# Altium schematic symbol library Darlington.SchLib: 3 symbols
Pins are listed as number, name and electrical type; pins without a type are passive.

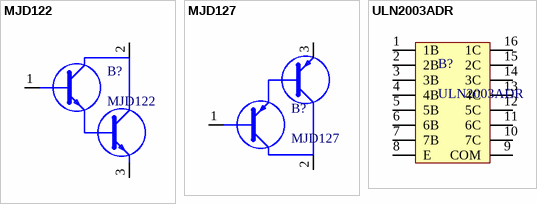
[diagram p0: symbols MJD122 to ULN2003ADR]

## MJD122
designator B?
CJ(江苏长电/长晶) NPN,Vceo=100V,Ic=8A; 封装: TO-252-2; 类别: 达林顿管; 子类别: NPN单管; 集射极击穿电压: 100V; 直流电流增益: 12000; 耗散功率: 1.5W; 集电极电流: 8A; 集电极截止电流: 10μA; 集射极饱和电压: 4V; 制造商: CJ(江苏长电/长晶)
footprint CJ-TO-252-2 (CJ(江苏长电/长晶) TO-252-2 推荐焊盘)
pins: 1 B, 2 C, 3 E

## MJD127
designator B?
CJ(江苏长电/长晶) PNP,Vceo=-100V,Ic=-8A; 封装: TO-252-2; 类别: 达林顿管; 子类别: PNP单管; 直流电流增益: 12000; 耗散功率: 1.5W; 集射极击穿电压: 100V; 集射极饱和电压: 4.5V; 集电极截止电流: 10μA; 集电极电流: 8A; 制造商: CJ(江苏长电/长晶)
footprint CJ-TO-252-2 (CJ(江苏长电/长晶) TO-252-2 推荐焊盘)
pins: 1 B, 2 C, 3 E

## ULN2003ADR
designator B?
TI(德州仪器) ULN2003A 高电压、大电流达林顿晶体管阵列; 子类别: NPN达林顿阵列; 封装: SOIC-16; 类别: 达林顿管; 集射极击穿电压: 50V; 集射极饱和电压: 1.6V; 集电极截止电流: 500μA; 集电极电流: 500mA; 制造商: TI(德州仪器)
footprint TI-SOIC16 (TI(德州仪器) SOIC-16 推荐封装)
pins: 1 1B, 2 2B, 3 3B, 4 4B, 5 5B, 6 6B, 7 7B, 8 E, 9 COM, 10 7C, 11 6C, 12 5C, 13 4C, 14 3C, 15 2C, 16 1C